# EAGLE library part ASFM (library Panasonic Relay)
SFM - 1 Form A 1 Form B Data sheet Parameters Max. switching voltage: 250V AC, 125V DC Max. switching current: NO 6A, NC 4A Operational function: Contact arrangement: 1 NO/ 1 NC Applications Emergency stop switches Machine safety engineering Safety control units Automation technology Elevators Escalators Safe sensor monitoring Standalone safety modules Safety sensor output Options Available with RT II (ASFM0XX2X) or RT III (ASFM0XX5S) degree of protection.
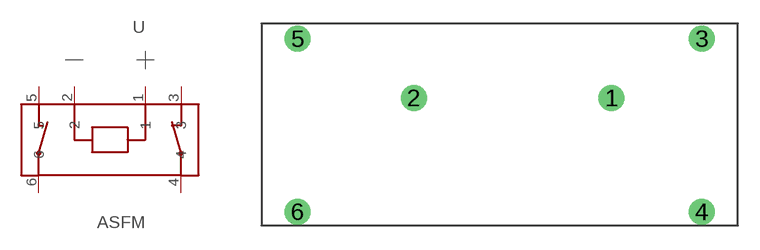
[diagram p50: symbol with the pads of SFM_1_FORM_A_1_FORM_B; footprint SFM_1_FORM_A_1_FORM_B]

Designator prefix -

## ASFM0032 (U_COIL: 3V DC), ASFM0035S (U_COIL: 3V DC), ASFM0052 (U_COIL: 5V DC), ASFM0055S (U_COIL: 5V DC), ASFM0122 (U_COIL: 12V DC), ASFM0125S (U_COIL: 12V DC), ASFM0162 (U_COIL: 16V DC), ASFM0165S (U_COIL: 16V DC), ASFM0182 (U_COIL: 18V DC), ASFM0185S (U_COIL: 18V DC), ASFM0212 (U_COIL: 21V DC), ASFM0215S (U_COIL: 21V DC), ASFM0242 (U_COIL: 24V DC), ASFM0245S (U_COIL: 24V DC)  [SFM_1_FORM_A_1_FORM_B]
1  1
2  2
3  3
4  4
5  5
6  6

## Footprint SFM_1_FORM_A_1_FORM_B (pad centres in mm)
drill 1.2: 1 7.75,1.85; 2 -5.95,1.85; 3 14,5.95; 4 14,-6.05; 5 -14,5.95; 6 -14,-6.05